# EAGLE library part CY62148EV30LL-45ZSXI_LCSC (library lcsc_parts)
Description: 4Mbit 2.2V~3.6V SOIC-32 Memory RoHS Manufacturer: Infineon/CYPRESS MPN: CY62148EV30LL-45ZSXI LCSC Part: C2959462 Category: Memory Datasheet: https://datasheet.lcsc.com/datasheet/pdf/77f81464e61bca2c9532f5537af8e101.pdf?productCode=C2959462
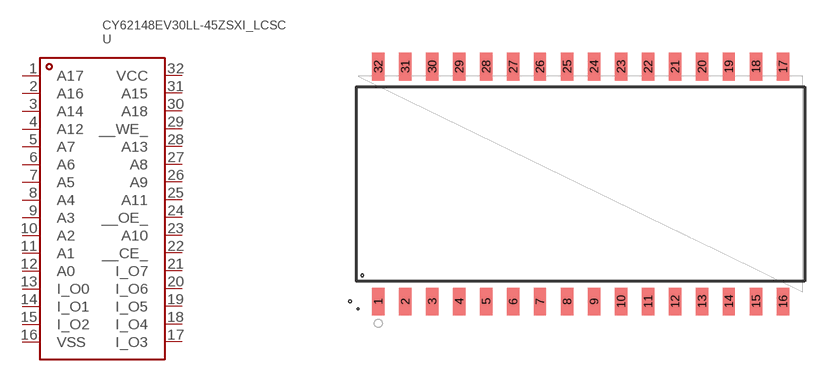
[diagram p17: symbol with the pads of TSOPII-32_L21.0-W10.2-P1.27-LS11.8-BL; footprint TSOPII-32_L21.0-W10.2-P1.27-LS11.8-BL]

Designator prefix U

## CY62148EV30LL-45ZSXI_LCSC (ACCESS_TIME: 45ns; CATEGORY: Memory; CURRENT_SUPPLY: 20mA; DATASHEET: https://datasheet.lcsc.com/datasheet/pdf/77f81464e61bca2c9532f5537af8e101.pdf?productCode=C2959462; DESCRIPTION: 4Mbit 2.2V~3.6V SOIC-32 Memory RoHS; FEATURES: Auto power-down function; LCSC_PART: C2959462; LCSC_STOCK: 44; MANUFACTURER: Infineon/CYPRESS; MEMORY_SIZE: 4Mbit; MPN: CY62148EV30LL-45ZSXI; OPERATING_TEMPERATURE: -40℃~+85℃; PARTNO: CY62148EV30LL-45ZSXI; PRICING_1000: $3.5631/unit @ 1000; PRICING_50: $4.2649/unit @ 50; STANDBY_SUPPLY_CURRENT: 2.5uA; VOLTAGE_SUPPLY: 2.2V~3.6V)  [TSOPII-32_L21.0-W10.2-P1.27-LS11.8-BL]
1  A17
2  A16
3  A14
4  A12
5  A7
6  A6
7  A5
8  A4
9  A3
10  A2
11  A1
12  A0
13  I_O0
14  I_O1
15  I_O2
16  VSS
17  I_O3
18  I_O4
19  I_O5
20  I_O6
21  I_O7
22  __CE_
23  A10
24  __OE_
25  A11
26  A9
27  A8
28  A13
29  __WE_
30  A18
31  A15
32  VCC

## Footprint TSOPII-32_L21.0-W10.2-P1.27-LS11.8-BL (pad centres in mm)
smd 0.574 x 1.3: 1 -9.52,-5.53; 2 -8.25,-5.53; 3 -6.98,-5.53; 4 -5.71,-5.53; 5 -4.44,-5.53; 6 -3.17,-5.53; 7 -1.91,-5.53; 8 -0.63,-5.53; 9 0.64,-5.53; 10 1.91,-5.53; 11 3.18,-5.53; 12 4.45,-5.53; 13 5.72,-5.53; 14 6.98,-5.53; 15 8.26,-5.53; 16 9.53,-5.53; 17 9.53,5.53; 18 8.26,5.53; 19 6.98,5.53; 20 5.72,5.53; 21 4.45,5.53; 22 3.18,5.53; 23 1.91,5.53; 24 0.64,5.53; 25 -0.63,5.53; 26 -1.91,5.53; 27 -3.17,5.53; 28 -4.44,5.53; 29 -5.71,5.53; 30 -6.98,5.53; 31 -8.25,5.53; 32 -9.52,5.53